# EAGLE library part TPS3700 (library ICs)
Analogue Comparator, Rail to Rail, Voltage, 2, 1.8V to 18V, SOT-23, 6 Pins
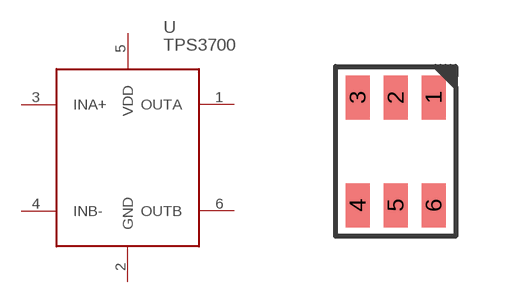
[diagram p147: symbol with the pads of SOT23-6; footprint SOT23-6]

Designator prefix U

## TPS3700DDCR (DIGIKEY: 296-30395-1-ND; HEIGHT: 1; PRICE_PER: 1.46; VALUE: TPS3700)  [SOT23-6]
1  OUTA
2  GND
3  INA+
4  INB-
5  VDD
6  OUTB

## Footprint SOT23-6 (pad centres in mm)
smd 0.6 x 1.1: 1 0.95,1.35; 2 0,1.35; 3 -0.95,1.35; 4 -0.95,-1.35; 5 0,-1.35; 6 0.95,-1.35